# Altium footprint library QRE1113GR.PcbLib: 1 footprints
Each footprint in its own frame and in the unit in brackets; x right, y up, seen from the top. Pads: shape width x height; smd on the part's side, far side on the other; paste and mask are expansions set on the pad; w line width, h text height; cw(c..) or ccw(c..) is an arc to the next point about the centre after c.
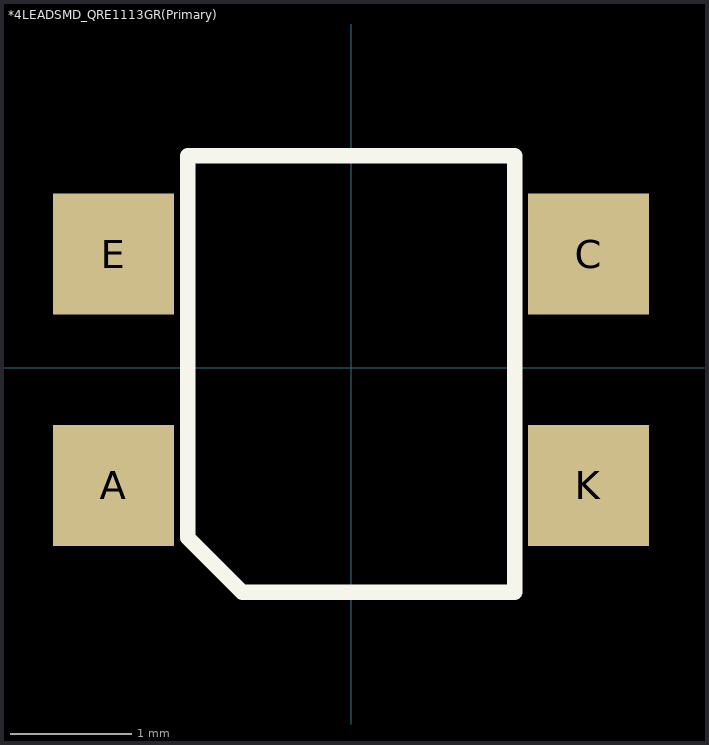
[diagram p0: the footprint, top view; thin cyan lines are the x and y axes]

## *4LEADSMD_QRE1113GR(Primary) [mm]
pads (4):
  rect 1x1 smd: A(-1.96,-0.97) C(1.96,0.94) E(-1.96,0.94) K(1.96,-0.97)
Top Overlay:
  lines w0.127: -1.35,-1.4 -0.9,-1.85 1.35,-1.85 1.35,1.75 -1.35,1.75 -1.35,-1.4
Top Paste:
  region: 1.402,1.5 2.65,1.5 2.65,0.4 1.402,0.4
  region: 1.45,-0.4 2.65,-0.4 2.65,-1.5 1.45,-1.5
  region: -2.602,-0.4 -1.4,-0.4 -1.4,-1.501 -2.602,-1.501
  region: -2.601,1.5 -1.4,1.5 -1.4,0.4 -2.601,0.4
3D body "IC_ON_Semi_QRE1113GR_eec.STEP": height 1.85, standoff 0, extent -2.404,-1.8 2.396,1.8